# Altium footprint library PCB_Flex.PcbLib: 2 footprints
Each footprint in its own frame and in the unit in brackets; x right, y up, seen from the top. Pads: shape width x height; smd on the part's side, far side on the other; paste and mask are expansions set on the pad; w line width, h text height; cw(c..) or ccw(c..) is an arc to the next point about the centre after c.
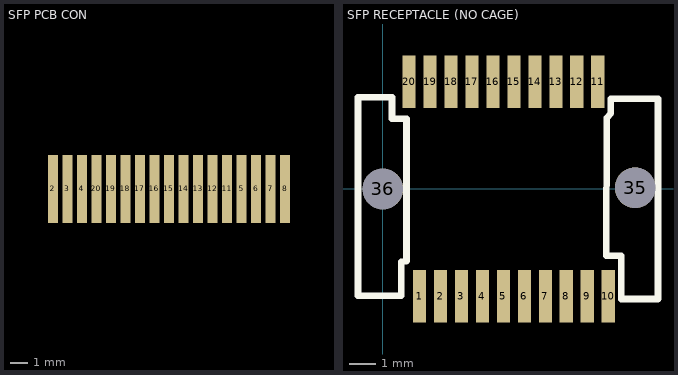
[diagram p0: the footprints below, top view; thin cyan lines are the x and y axes]

## SFP PCB CON [mil]
pads (17):
  rect 22x150 smd: 2(-48774.61,-47565.22) 3(-48742.61,-47565.22) 4(-48710.61,-47565.22) 5(-48358.61,-47565.22) 6(-48326.61,-47565.22) 7(-48294.61,-47565.22) 8(-48262.61,-47565.22) 11(-48390.61,-47565.22) 12(-48422.61,-47565.22) 13(-48454.61,-47565.22) 14(-48486.61,-47565.22) 15(-48518.61,-47565.22) 16(-48550.61,-47565.22) 17(-48582.61,-47565.22) 18(-48614.61,-47565.22) 19(-48646.61,-47565.22) 20(-48678.61,-47565.22)

## SFP RECEPTACLE (NO CAGE) [mm]
pads (22):
  rect 0.5x2 smd: 1(1.4,-4.1) 2(2.2,-4.1) 3(3,-4.1) 4(3.8,-4.1) 5(4.6,-4.1) 6(5.4,-4.1) 7(6.2,-4.1) 8(7,-4.1) 9(7.8,-4.1) 10(8.6,-4.1) 11(8.2,4.1) 12(7.4,4.1) 13(6.6,4.1) 14(5.8,4.1) 15(5,4.1) 16(4.2,4.1) 17(3.4,4.1) 18(2.6,4.1) 19(1.8,4.1) 20(1,4.1)
  round 1.55 hole 1.55: 35(9.625,0.05) 36(0,0)
Top Overlay:
  lines w0.254: -0.95,-4.075 0.7,-4.075 0.7,-2.775 0.9,-2.75 0.9,2.675 0.35,2.675 0.35,3.5 -0.95,3.5 -0.95,-4.075 ; 8.525,-2.55 9.1,-2.55 9.1,-4.2 10.5,-4.2 10.5,3.45 8.7,3.45 8.7,2.9 8.55,2.725 8.525,-2.55
3D body: height 5.28, standoff -0.6, extent -0.674,-4.536 10.326,4.613